# EAGLE library part 484050003 (library My_Library)
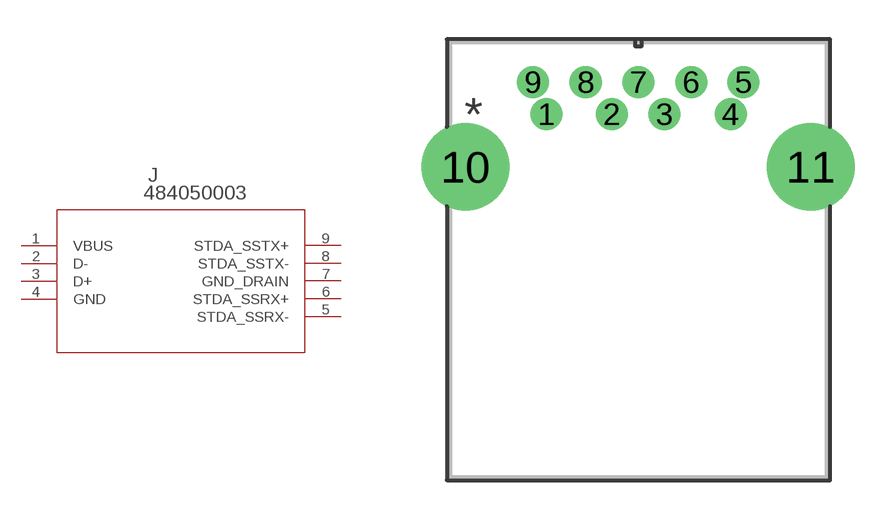
[diagram p19: symbol with the pads of 484050003_MOL; footprint 484050003_MOL]

Designator prefix J

## 484050003 (COPYRIGHT: Copyright (C) 2024 Ultra Librarian. All rights reserved.; MANUFACTURER_PART_NUMBER: 484050003; MFR_NAME: Molex Connector Corporation)  [484050003_MOL]
1  VBUS  pwr
2  D-
3  D+
4  GND  pas
5  STDA_SSRX-  pas
6  STDA_SSRX+  pas
7  GND_DRAIN  pas
8  STDA_SSTX-  pas
9  STDA_SSTX+  pas

## Footprint 484050003_MOL (pad centres in mm)
drill 0.711 pad 1.092: 1 0,0; 2 2.489,0; 3 4.496,0; 4 7.01,0; 5 7.493,1.219; 6 5.512,1.219; 7 3.505,1.219; 8 1.499,1.219; 9 -0.508,1.219
drill 2.311 pad 2.692: 10 -3.073,-2.007; 11 10.058,-2.007